# EAGLE library part STM32F042K6T6 (library ORBIT-STM32F)
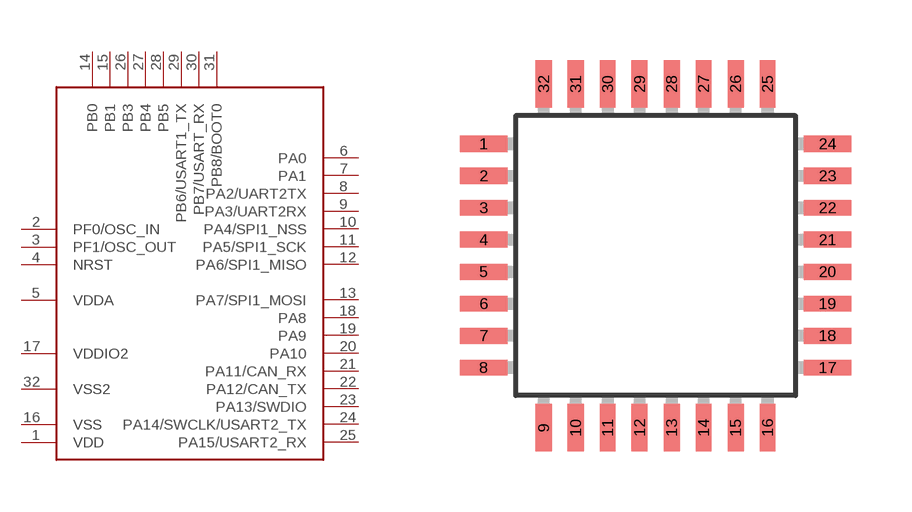
[diagram p2: symbol with the pads of LQFP32-7X7; footprint LQFP32-7X7]

Designator prefix -

## STM32F042K6T6  [LQFP32-7X7]
1  VDD
2  PF0/OSC_IN
3  PF1/OSC_OUT
4  NRST
5  VDDA
6  PA0
7  PA1
8  PA2/UART2TX
9  PA3/UART2RX
10  PA4/SPI1_NSS
11  PA5/SPI1_SCK
12  PA6/SPI1_MISO
13  PA7/SPI1_MOSI
14  PB0
15  PB1
16  VSS
17  VDDIO2
18  PA8
19  PA9
20  PA10
21  PA11/CAN_RX
22  PA12/CAN_TX
23  PA13/SWDIO
24  PA14/SWCLK/USART2_TX
25  PA15/USART2_RX
26  PB3
27  PB4
28  PB5
29  PB6/USART1_TX
30  PB7/USART_RX
31  PB8/BOOT0
32  VSS2

## Footprint LQFP32-7X7 (pad centres in mm)
LQFP-32 package 7x7 mm case, 0.8 mm lead pitch Sourced: Data sheet <http://www.st.com/stonline/products/literature/ds/14771/stm8s105c4.pdf>
smd 1.2 x 0.4: 1 -4.3,2.8; 2 -4.3,2; 3 -4.3,1.2; 4 -4.3,0.4; 5 -4.3,-0.4; 6 -4.3,-1.2; 7 -4.3,-2; 8 -4.3,-2.8; 17 4.3,-2.8; 18 4.3,-2; 19 4.3,-1.2; 20 4.3,-0.4; 21 4.3,0.4; 22 4.3,1.2; 23 4.3,2; 24 4.3,2.8
smd 0.4 x 1.2: 9 -2.8,-4.3; 10 -2,-4.3; 11 -1.2,-4.3; 12 -0.4,-4.3; 13 0.4,-4.3; 14 1.2,-4.3; 15 2,-4.3; 16 2.8,-4.3; 25 2.8,4.3; 26 2,4.3; 27 1.2,4.3; 28 0.4,4.3; 29 -0.4,4.3; 30 -1.2,4.3; 31 -2,4.3; 32 -2.8,4.3